# Altium integrated library Header 2.IntLib: 1 symbol
Pins are listed as number, name and electrical type; pins without a type are passive.

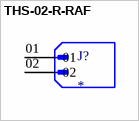
[diagram p0: symbol THS-02-R-RAF]

## THS-02-R-RAF
designator J?
MP: THS-02-R-RAF; Value: *; Availability: Unavailable; Price: None; Package: None
footprint VALCON_THS-02-R-RAF
pins: 01, 02